# EAGLE library part A6FR-4101 (library piano_dip_4)
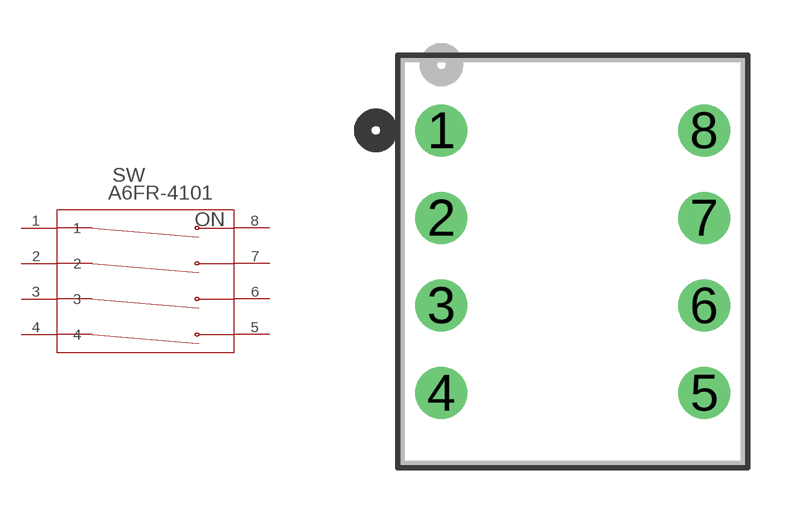
[diagram p0: symbol with the pads of SW_A6FR-4101_OMR; footprint SW_A6FR-4101_OMR]

Designator prefix SW

## A6FR-4101SW_A6FR-4101_OMR (Copyright: Copyright (C) 2022 Ultra Librarian. All rights reserved.; Manufacturer_Part_Number: A6FR-4101; Mfr_Name: Omron)  [SW_A6FR-4101_OMR]
1  1  pas
2  2  pas
3  3  pas
4  4  pas
5  5  pas
6  6  pas
7  7  pas
8  8  pas

## Footprint SW_A6FR-4101_OMR (pad centres in mm)
drill 0.991 pad 1.508 round: 1 -7.62,7.62; 2 -7.62,5.08; 3 -7.62,2.54; 4 -7.62,0; 5 0,0; 6 0,2.54; 7 0,5.08; 8 0,7.62